# EAGLE library part MAGJACK (library reclone-rise)
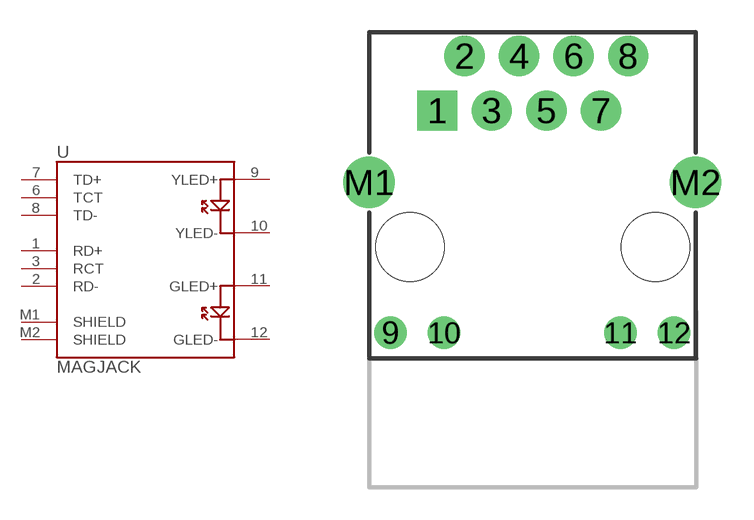
[diagram p10: symbol with the pads of MAGJACK; footprint MAGJACK]

Designator prefix -

## MAGJACK  [MAGJACK]
1  RD+
2  RD-
3  RCT
6  TCT
7  TD+
8  TD-
9  YLED+
10  YLED-
11  GLED+
12  GLED-
M1  SHIELD
M2  SHIELD

## Footprint MAGJACK (pad centres in mm)
drill 1 pad 1.88 square: 1 -4.445,17.445
drill 1 pad 1.88: 2 -3.175,19.985; 3 -1.905,17.445; 4 -0.635,19.985; 5 0.635,17.445; 6 1.905,19.985; 7 3.175,17.445; 8 4.445,19.985
drill 1 pad 1.27: 9 -6.62,7.1; 10 -4.12,7.1; 11 4.08,7.1; 12 6.58,7.1
drill 1.6 pad 2.184: M1 -7.62,14.1; M2 7.58,14.1
hole 3.2 at -5.715,11.095
hole 3.2 at 5.715,11.095